# Altium footprint library adafruit.PCBLIB: 643 footprints (part 22 of 41)
Each footprint in its own frame and in the unit in brackets; x right, y up, seen from the top. Pads: shape width x height; smd on the part's side, far side on the other; paste and mask are expansions set on the pad; w line width, h text height; cw(c..) or ccw(c..) is an arc to the next point about the centre after c.
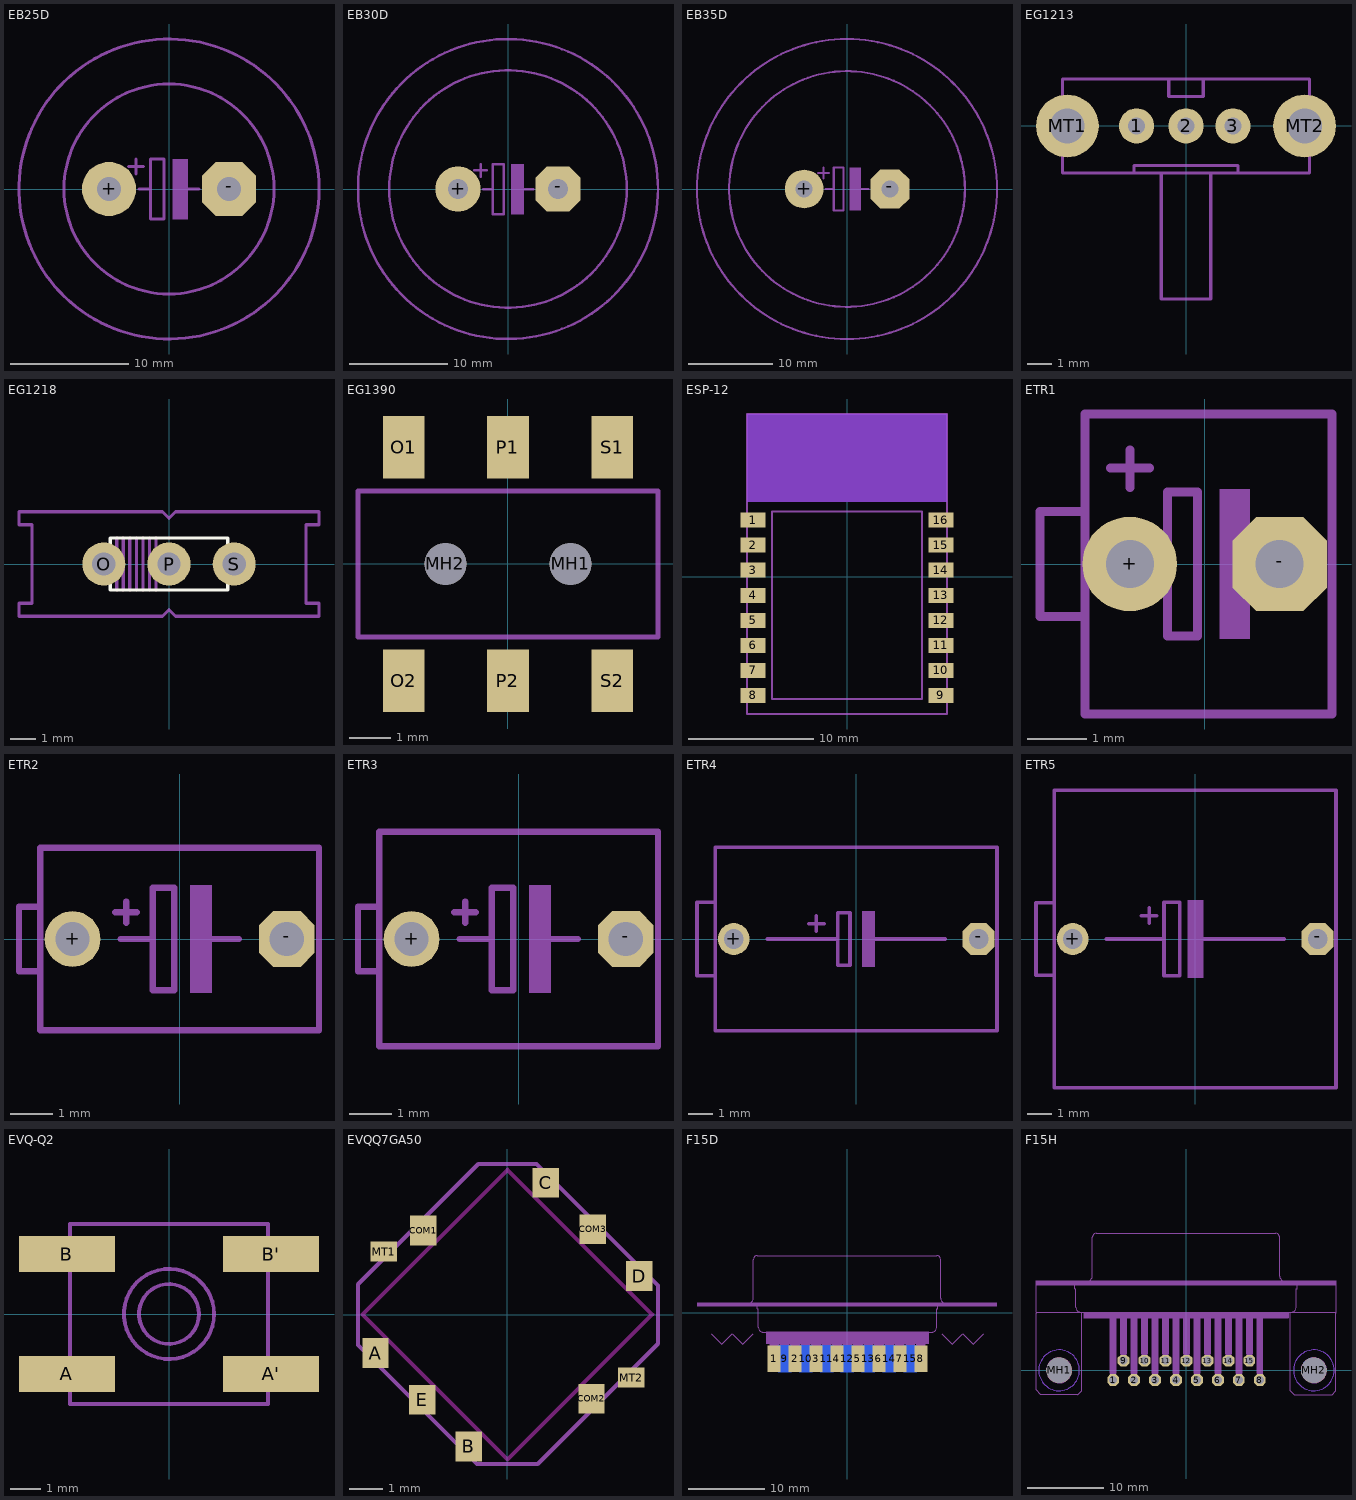
[diagram p21: the footprints below, top view; thin cyan lines are the x and y axes]

## EB25D [mil]
pads (2):
  round 181 hole 79: +(-200,0)
  oct 181x181 / inner round 167.22 / far side oct 181x181 hole 79: -(200,0)
tPlace:
  circle w10: c0,0 r500
  circle w10: c0,0 r350
  region: 13,-100 13,100 63,100 63,-100
  lines w10: -135,75 -85,75 ; -110,50 -110,100 ; -100,0 -62,0 ; 25,0 100,0 ; -62,0 -62,100 -17,100 -17,-100 -62,-100 -62,0

## EB30D [mil]
pads (2):
  round 181 hole 79: +(-200,0)
  oct 181x181 / inner round 167.22 / far side oct 181x181 hole 79: -(200,0)
tPlace:
  circle w10: c0,0 r600
  circle w10: c0,0 r475
  region: 13,-100 13,100 63,100 63,-100
  lines w10: -135,75 -85,75 ; -110,50 -110,100 ; -100,0 -62,0 ; 25,0 100,0 ; -62,0 -62,100 -17,100 -17,-100 -62,-100 -62,0

## EB35D [mil]
pads (2):
  round 181 hole 79: +(-200,0)
  oct 181x181 / inner round 167.22 / far side oct 181x181 hole 79: -(200,0)
tPlace:
  circle w10: c0,0 r700
  circle w10: c0,0 r550
  region: 13,-100 13,100 63,100 63,-100
  lines w10: -135,75 -85,75 ; -110,50 -110,100 ; -100,0 -62,0 ; 55,0 100,0 ; -62,0 -62,100 -17,100 -17,-100 -62,-100 -62,0

## EG1213 [mil]
pads (5):
  round 56 hole 27.56: 1(-78.74,0) 2(0,0) 3(74.8,0)
  round 100 hole 55.12: MT1(-188.98,0) MT2(188.98,0)
tPlace:
  lines w5: -82.68,-74.8 -39.37,-74.8 ; -82.68,-74.8 -196.85,-74.8 -196.85,74.8 -27.56,74.8 ; -82.68,-74.8 -82.68,-62.99 82.68,-62.99 82.68,-74.8 ; -39.37,-74.8 39.37,-74.8 ; -39.37,-74.8 -39.37,-275.59 39.37,-275.59 39.37,-74.8 ; -27.56,74.8 27.56,74.8 ; -27.56,74.8 -27.56,47.24 27.56,47.24 27.56,74.8 ; 27.56,74.8 196.85,74.8 196.85,-74.8 82.68,-74.8 ; 39.37,-74.8 82.68,-74.8

## EG1218 [mil]
pads (3):
  round 66 hole 35.43: O(-100,0) P(0,0) S(100,0)
Top Overlay:
  lines w5: -90,-40 90,-40 90,40 -90,40 -90,-40
tPlace:
  lines w5: -80,-40 -80,40 ; -70,-40 -70,40 ; -60,-40 -60,40 ; -50,-40 -50,40 ; -40,-40 -40,40 ; -30,-40 -30,40 ; -20,-40 -20,40 ; -230,-80 -10,-80 0,-70 10,-80 230,-80 230,-60 210,-60 210,60 230,60 230,80 10,80 0,70 -10,80 -230,80 -230,60 -210,60 -210,-60 -230,-60 -230,-80

## EG1390 [mm]
pads (8):
  round 1 hole 1 unplated: MH1(1.5,0) MH2(-1.5,0)
  rect 1x1.5 smd: O1(-2.5,2.8) O2(-2.5,-2.8) P1(0,2.8) P2(0,-2.8) S1(2.5,2.8) S2(2.5,-2.8)
tPlace:
  lines w0.127: -3.6,-1.75 3.6,-1.75 3.6,1.75 -3.6,1.75 -3.6,-1.75

## ESP-12 [mm]
pads (16):
  rect 2x1.2 smd: 1(-7.5,4.5) 2(-7.5,2.5) 3(-7.5,0.5) 4(-7.5,-1.5) 5(-7.5,-3.5) 6(-7.5,-5.5) 7(-7.5,-7.5) 8(-7.5,-9.5) 9(7.5,-9.5) 10(7.5,-7.5) 11(7.5,-5.5) 12(7.5,-3.5) 13(7.5,-1.5) 14(7.5,0.5) 15(7.5,2.5) 16(7.5,4.5)
Top keep-out:
  region: -8,6 -8,13 8,13 8,6
Bottom keep-out:
  region: -8,6 -8,13 8,13 8,6
tPlace:
  lines w0.127: -8,-11 8,-11 8,13 -8,13 -8,-11 ; -6,-9.8 6,-9.8 6,5.2 -6,5.2 -6,-9.8
  text "Antenna" at -0.1,8.3 h1.08

## ETR1 [mil]
pads (2):
  round 63 hole 32: +(-50,0)
  oct 63x63 / inner round 58.2 / far side oct 63x63 hole 32: -(50,0)
tDocu:
  region: 10,-50 10,50 30,50 30,-50
  lines w6: -80,-35 -80,35 ; -65,0 -25,0 ; 25,0 65,0 ; 85,-25 85,25 ; -25,0 -25,-48 -5,-48 -5,48 -25,48 -25,0
tPlace:
  lines w6: -63,64 -37,64 ; -50,51 -50,76 ; 85,-25 85,-100 -80,-100 -80,-35 -110,-35 -110,35 -80,35 -80,100 85,100 85,25

## ETR2 [mil]
pads (2):
  round 52 hole 32: +(-100,0)
  oct 52x52 / inner round 48.04 / far side oct 52x52 hole 32: -(100,0)
tDocu:
  lines w6: -130,-30 -130,30 ; 130,-30 130,30
tPlace:
  region: 10,-50 10,50 30,50 30,-50
  lines w6: -60,25 -40,25 ; -55,0 -25,0 ; -50,15 -50,35 ; 25,0 55,0 ; 130,-30 130,-85 -130,-85 -130,-30 -150,-30 -150,30 -130,30 -130,85 130,85 130,30 ; -25,0 -25,-48 -5,-48 -5,48 -25,48 -25,0

## ETR3 [mil]
pads (2):
  round 52 hole 32: +(-100,0)
  oct 52x52 / inner round 48.04 / far side oct 52x52 hole 32: -(100,0)
tDocu:
  lines w6: -130,-30 -130,30 ; 130,-30 130,30
tPlace:
  region: 10,-50 10,50 30,50 30,-50
  lines w6: -60,25 -40,25 ; -55,0 -25,0 ; -50,15 -50,35 ; 25,0 55,0 ; 130,-30 130,-100 -130,-100 -130,-30 -150,-30 -150,30 -130,30 -130,100 130,100 130,30 ; -25,0 -25,-48 -5,-48 -5,48 -25,48 -25,0

## ETR4 [mil]
pads (2):
  round 52 hole 32: +(-200,0)
  oct 52x52 / inner round 48.04 / far side oct 52x52 hole 32: -(200,0)
tDocu:
  lines w6: -230,-60 -230,60 ; 230,-30 230,30
tPlace:
  region: 10,-45 10,45 30,45 30,-45
  lines w6: -145,0 -30,0 ; -77,25 -52,25 ; -65,13 -65,38 ; 20,0 145,0 ; 230,-30 230,-150 -230,-150 -230,-60 -260,-60 -260,60 -230,60 -230,150 230,150 230,30 ; -30,0 -30,43 -10,43 -10,-43 -30,-43 -30,0

## ETR5 [mil]
pads (2):
  round 52 hole 32: +(-200,0)
  oct 52x52 / inner round 48.04 / far side oct 52x52 hole 32: -(200,0)
tDocu:
  lines w6: -230,-59 -230,59 ; 230,-35 230,35
tPlace:
  region: -12,-63 -12,63 13,63 13,-63
  lines w6: -145,0 -51,0 ; -88,38 -63,38 ; -75,26 -75,51 ; 0,0 145,0 ; 230,-35 230,-243 -230,-243 -230,-59 -260,-59 -260,59 -230,59 -230,243 230,243 230,35 ; -51,0 -51,60 -25,60 -25,-60 -51,-60 -51,0

## EVQ-Q2 [mm]
pads (4):
  rect 3.2x1.2 smd: A(-3.4,-2) A'(3.4,-2) B(-3.4,2) B'(3.4,2)
tPlace:
  circle w0.127: c0,0 r1.503
  circle w0.127: c0,0 r1
  lines w0.127: -3.3,-3 3.3,-3 3.3,3 -3.3,3 -3.3,-3

## EVQQ7GA50 [mil]
pads (10):
  rect 31.5x35.43 smd: A(-157.29,-45.93) B(-45.93,-157.29) C(45.93,157.29) COM1(-100.22,100.22) COM2(100.22,-100.22) COM3(101.61,101.61) D(157.29,45.93) E(-101.61,-101.61)
  rect 31.5x23.62 smd: MT1(-147.54,75.16) MT2(147.54,-75.16)
Top keep-out:
  lines w5: -172.6,0 0,172.6 172.6,0 0,-172.6 -172.6,0
tPlace:
  lines w5: -178.17,-36.19 -178.17,36.19 -34.8,179.56 34.8,179.56 179.56,34.8 179.56,-34.8 36.19,-178.17 -36.19,-178.17 -178.17,-36.19

## F15D [mil]
pads (15):
  rect 66.93x137.8 smd: 1(-378.01,-237.98) 2(-270,-237.99) 3(-161.99,-237.98) 4(-54.01,-237.98) 5(54.01,-237.98) 6(161.99,-237.98) 7(270,-237.99) 8(378.01,-237.98)
  rect 66.93x137.8 smd far side: 9(-324,-238) 10(-216,-238) 11(-108,-238) 12(0,-238) 13(108,-238) 14(216,-238) 15(324,-238)
tDocu:
  region: -401.62,-258.27 -401.62,-159.84 -354.38,-159.84 -354.38,-258.27
  region: -293.62,-258.27 -293.62,-159.84 -246.38,-159.84 -246.38,-258.27
  region: -185.62,-258.27 -185.62,-159.84 -138.38,-159.84 -138.38,-258.27
  region: -77.62,-258.27 -77.62,-159.84 -30.38,-159.84 -30.38,-258.27
  region: 30.38,-258.27 30.38,-159.84 77.62,-159.84 77.62,-258.27
  region: 138.38,-258.27 138.38,-159.84 185.62,-159.84 185.62,-258.27
  region: 246.38,-258.27 246.38,-159.84 293.62,-159.84 293.62,-258.27
  region: 354.38,-258.27 354.38,-159.84 401.62,-159.84 401.62,-258.27
  text "F15D" at -462,181 h77.5
bDocu:
  region: -347.62,-258.27 -347.62,-159.84 -300.38,-159.84 -300.38,-258.27
  region: -239.62,-258.27 -239.62,-159.84 -192.38,-159.84 -192.38,-258.27
  region: -131.62,-258.27 -131.62,-159.84 -84.38,-159.84 -84.38,-258.27
  region: -23.62,-258.27 -23.62,-159.84 23.62,-159.84 23.62,-258.27
  region: 84.38,-258.27 84.38,-159.84 131.62,-159.84 131.62,-258.27
  region: 192.38,-258.27 192.38,-159.84 239.62,-159.84 239.62,-258.27
  region: 300.38,-258.27 300.38,-159.84 347.62,-159.84 347.62,-258.27
tPlace:
  region: -775,31.94 -775,51.94 770,51.94 770,31.94
  region: -417.32,-161.42 -417.32,-98.43 417.32,-98.43 417.32,-161.42
  lines w6: -510,48 ccw(c-510,73) -485,73 -485,273 cw(c-465,273) -465,293 460,293 cw(c460,273) 480,273 480,73 ccw(c505,73) 505,48 ; -464,40 -464,20 -459,20 -459,-75 ccw(c-434,-75) -434,-100 ; -434.76,-100 434.76,-100 ; 434,-100 ccw(c434,-75) 459,-75 459,20 464,20 464,40
  text "1" at -395.07,-85.77 h77.5
  text "8" at 362.2,-85.77 h77.5
bPlace:
  text "9" at -302.82,-86.48 h77.5
  text "15" at 340.81,-86.48 h77.5
Document:
  lines w0: -702,-108 -648,-162 -594,-108 -540,-162 -486,-108 ; 486,-108 540,-162 594,-108 648,-162 702,-108
  text "Board" at 504,-100 h77.5
  text "Board" at -704,-100 h77.5

## F15H [mil]
pads (17):
  oct 60x60 / inner round 55.43 / far side oct 60x60 hole 40: 1(-378,-50) 2(-270,-50) 3(-162,-50) 4(-54,-50) 5(54,-50) 6(162,-50) 7(270,-50) 8(378,-50) 9(-324,50) 10(-216,50) 11(-108,50) 12(0,50) 13(108,50) 14(216,50) 15(324,50)
  round 130 hole 130 unplated: MH1(-656,0) MH2(656,0)
Top keep-out:
  circle w0: c-656,0 r105
  circle w0: c656,0 r105
Bottom keep-out:
  circle w0: c-656,0 r105
  circle w0: c656,0 r105
tDocu:
  lines w32: -378,-45 -378,-5 ; -324,55 -324,95 ; -270,-45 -270,-5 ; -216,55 -216,95 ; -162,-45 -162,-5 ; -108,55 -108,95 ; -54,-45 -54,-5 ; 0,55 0,95 ; 54,-45 54,-5 ; 108,55 108,95 ; 162,-45 162,-5 ; 216,55 216,95 ; 270,-45 270,-5 ; 324,55 324,95 ; 378,-45 378,-5
tPlace:
  circle w6: c-656,0 r65
  circle w6: c656,0 r65
  region: -530,270 -530,300 525,300 525,270
  region: -775,440 -775,460 770,460 770,440
  region: -394,-15 -394,270 -362,270 -362,-15
  region: -340,85 -340,270 -308,270 -308,85
  region: -286,-15 -286,270 -254,270 -254,-15
  region: -232,85 -232,270 -200,270 -200,85
  region: -178,-15 -178,270 -146,270 -146,-15
  region: -124,85 -124,270 -92,270 -92,85
  region: -70,-15 -70,270 -38,270 -38,-15
  region: -16,85 -16,270 16,270 16,85
  region: 38,-15 38,270 70,270 70,-15
  region: 92,85 92,270 124,270 124,85
  region: 146,-15 146,270 178,270 178,-15
  region: 200,85 200,270 232,270 232,85
  region: 254,-15 254,270 286,270 286,-15
  region: 308,85 308,270 340,270 340,85
  region: 362,-15 362,270 394,270 394,-15
  lines w6: -545,300 cw(c-545,325) -570,325 -570,420 -575,420 -575,440 ; -510,460 ccw(c-510,485) -485,485 -485,685 cw(c-465,685) -465,705 -455,705 450,705 460,705 cw(c460,685) 480,685 480,485 ccw(c505,485) 505,460 ; 540,300 ccw(c540,325) 565,325 565,420 570,420 570,440 ; -775,300 -575,300 -540,300 ; -775,300 -775,420 -775,440 ; -775,300 -775,295 -775,-100 -750,-125 -560,-125 -540,-105 -540,300 ; -775,440 -775,460 -470,460 465,460 770,460 770,440 ; -775,440 -675,440 -575,440 ; -575,440 570,440 ; -540,300 -530,300 ; -530,300 -530,270 525,270 525,300 ; -530,300 525,300 ; 525,300 535,300 ; 535,300 570,300 770,300 ; 535,300 535,-105 555,-125 750,-125 770,-105 770,295 770,300 ; 570,440 670,440 770,440 ; 770,300 770,420 770,440
  text "1" at -465,-75 h77.5
  text "8" at 435,-75 h77.5
  text "9" at -465,25 h77.5
  text "15" at 435,25 h77.5
  text "2,54" at 750,100 h77.5
  text "F15" at -465,335 h77.5